# Altium footprint library PCB - POWER MODULE - MAX77654AENVN.PcbLib: 1 footprints
Each footprint in its own frame and in the unit in brackets; x right, y up, seen from the top. Pads: shape width x height; smd on the part's side, far side on the other; paste and mask are expansions set on the pad; w line width, h text height; cw(c..) or ccw(c..) is an arc to the next point about the centre after c.
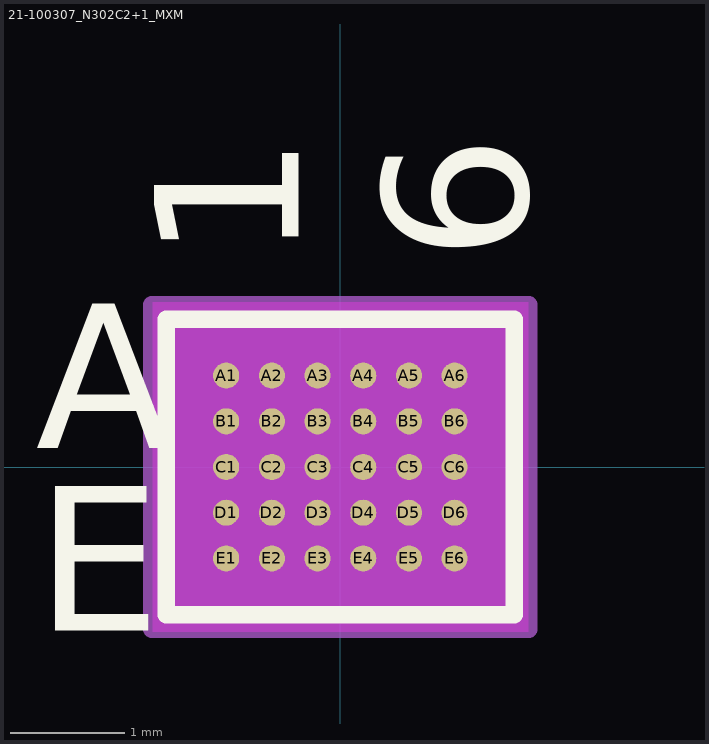
[diagram p0: the footprint, top view; thin cyan lines are the x and y axes]

## 21-100307_N302C2+1_MXM [mil]
pads (30):
  round 9 smd paste+0 mask+0: A1(-39.38,31.5) A2(-23.62,31.5) A3(-7.88,31.5) A4(7.88,31.5) A5(23.62,31.5) A6(39.38,31.5) B1(-39.38,15.75) B2(-23.62,15.75) B3(-7.88,15.75) B4(7.88,15.75) B5(23.62,15.75) B6(39.38,15.75) C1(-39.38,0) C2(-23.62,0) C3(-7.88,0) C4(7.88,0) C5(23.62,0) C6(39.38,0) D1(-39.38,-15.75) D2(-23.62,-15.75) D3(-7.88,-15.75) D4(7.88,-15.75) D5(23.62,-15.75) D6(39.38,-15.75) E1(-39.38,-31.5) E2(-23.62,-31.5) E3(-7.88,-31.5) E4(7.88,-31.5) E5(23.62,-31.5) E6(39.38,-31.5)
Top Overlay:
  lines w6: -60,-51 60,-51 60,51 -60,51 -60,-51
  text "A" at -105,6.5 h50
  text "E" at -105,-56.5 h50
  text "1" at -14.38,71 h50
  text "6" at 64.38,71 h50
  text ".Designator" at -137.5,-25 h50
Bottom Overlay:
  text "A" at -80,6.5 h50
  text "E" at -80,-56.5 h50
  text "1" at -64.38,71 h50
  text "6" at 14.38,71 h50
Keep-Out Layer:
  region: -64.75,-56.88 -64.75,56.88 64.75,56.88 64.75,-56.88
Mechanical 13:
  lines w1: -55,38.12 -47.12,46 ; -55,-46 55,-46 55,46 -55,46 -55,-46
  text "A" at -105,6.5 h50
  text "E" at -105,-56.5 h50
  text "1" at -14.38,71 h50
  text "6" at 64.38,71 h50
  text ".Designator" at -135,-25 h50
Mechanical 15:
  region: 65,-56 -65,-56 -65,56 65,56
  lines w6: -65,-56 -65,56 65,56 65,-56 -65,-56
3D body "MAX77654 WFBGA.step": height 20.12, standoff -0.02, extent -55,-45.98 55,45.99